# Altium schematic symbol library Schlib_Motorvermogen.SchLib: 20 symbols
Pins are listed as number, name and electrical type; pins without a type are passive.

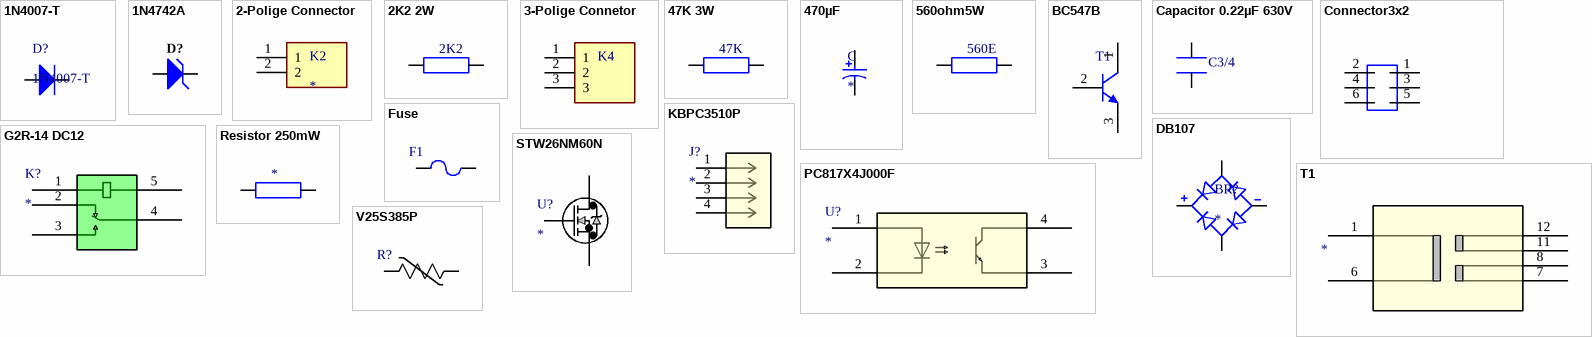
[diagram p0: symbols 1N4007-T to V25S385P]

## 1N4007-T
designator D?
1.0 A Rectifier, 8 pF, 1000 V, -65 to 150 degC, 2-Pin DO-41 Plastic, RoHS, Tape and Reel; Manufacturer: Diodes Inc; Max. Average Rectified Current IO (A): 1; CT (pF): 8; Max. IR (uA): 5; VRRM (V): 1000; Max. IFSM (A): 30; Mounting Technology: Through Hole; Packing: Tape and Reel; ComponentLink1Description: Manufacturer URL; DatasheetVersion: Rev. 8-2; PackageDescription: 2-Pin Axial Lead, Body 4.635 x 2.36 mm, Lead Spread 25.4 mm; PartNumber: 1N4007-T; ComponentLink2Description: Datasheet; RoHS: TRUE; ComponentLink1URL: http://diodes.com/; ComponentLink2URL: http://diodes.com/datasheets/ds28002.pdf; Operating Temperature Range (degC): -65 to 150; VF (V): 1; PackageReference: DO-41-P-2
footprint 1N4007-T (2-Leads, Axial Lead, Body 4.635x2.36mm, Pin Spacing 9mm)
pins: 1 A, 2 K

## 1N4742A
designator D?  (value not drawn)
Zener Diode, 12V, 1W, 5%, -65 to 200 degC, 2-Pin DO-41, Body 2.72 x 5.2 mm, RoHS; Manufacturer: Fairchild Semiconductor; PD (W): 1; VZ (Min.) (V): 11.4; VZ (Max.) (V): 12.6; ZZ (Max) (ohm): 8; IR (uA): 5; Test Current IZ (mA): 21; PartNumber: 1N4742A; PackageVersion: Rev. 2; DatasheetVersion: Rev. H3; Mounting Technology: Through Hole; Tolerance: 5%; PackageDescription: 2-Pin Axial leaded, Body 2.72 x 5.2 mm, Lead Spread 25.4 mm; ComponentLink1Description: Manufacturer URL; ComponentLink3Description: Package Specification; ComponentLink2Description: Datasheet; ComponentLink2URL: http://www.fairchildsemi.com/ds/1N/1N4744A.pdf; PackageReference: DO-41-2; RoHS: TRUE; Operating and Storage Temperature Range: -65 to 200 degC; ComponentLink3URL: http://www.fairchildsemi.com/dwg/DO/DO41A.pdf; ComponentLink1URL: http://www.fairchildsemi.com/
footprint 1N4742A (2-Leads, Axial leaded, Body 2.72x5.2mm, Pin Spacing 9mm)
pins: 1 A, 2 K

## 2-Polige Connector
designator K2
2~24 Poles, Screw Type, Horizontal, 7.62 Pitch, 26~10 (AWG), Terminal Block Connector; MP: TB005-762-02BE; MF: CUI Devices; SnapEDA_Link: https://www.snapeda.com/parts/TB005-762-02BE/CUI+Devices/view-part/?ref=snap; Price: None; CUI_purchase_URL: https://www.cuidevices.com/product/interconnect/connectors/terminal-blocks/tb005-762-series?utm_source=snapeda.com&utm_medium=referral&utm_campaign=snapedaBOM; Check_prices: https://www.snapeda.com/parts/TB005-762-02BE/CUI+Devices/view-part/?ref=eda; Availability: In Stock; Value: *; Purchase-URL: https://pricing.snapeda.com/search/part/TB005-762-02BE/?ref=eda; Package: None
footprint 2-Polige Connector
pins: 1, 2

## 2K2 2W
designator 2K2  (value not drawn)
footprint 2K2 2W
pins: 1, 2

## 3-Polige Connetor
designator K4  (value not drawn)
MP: TB005-762-03BE; Package: None; Value: *; Availability: Unavailable; Price: None
footprint 3-Polige Connector (Footprint not found)
pins: 1, 2, 3

## 47K 3W
designator 47K  (value not drawn)
47K 3W
footprint 47K 3W
pins: 1, 2

## 470µF
designator C
Capacitor 470µF 50V
footprint Capacitor
pins: 1, 2

## 560ohm5W
designator 560E
Resistor, 560 Ohm, ± 5%, 5 W, Axial Leaded, Wirewound, General Purpose; NexarPartId: 39746692; Lead Diameter: 800µm; Max Power Dissipation: 5W; Voltage Rating: 53V; Temperature Coefficient: -80ppm/°C; Resistance: 560Ω; Length: 18mm; Tolerance: 5%; Contact Plating: Tin; Composition: Wirewound; Width: 7.49mm; Features: Flame Retardant Coating; Min Operating Temperature: -40°C; Number of Terminations: 2; Number of Pins: 2; Radiation Hardening: No; Military Standard: Not; Schedule B: 8533210080, 8533210080|8533210080|8533210080|8533210080|8533210080; Power Rating: 5W; Case/Package: Axial; RoHS: Compliant; REACH SVHC: Unknown; Packaging: Tape & Box (TB); Termination: Axial; Voltage Rating (DC): 53V; Max Operating Temperature: 275°C; Diameter: 7.5mm
footprint 560Ohm 5W
pins: 1, 2

## BC547B
designator T1  (value not drawn)
Amplifier Transistor, NPN Silicon, 3-Pin TO-92, Bulk Box; Manufacturer: On Semiconductor; IC Continuous (A): 0.1; fT Min (MHz): 150; DatasheetVersion: Rev. 7; ComponentLink1URL: http://www.onsemi.com/; Polarity: NPN; RoHS: FALSE; ComponentLink1Description: Manufacturer URL; Packing: Bulk Box; PackageDescription: 3-Pin Transistor Outline, Body 4.825 x 3.685 mm, Pitch 1.27 mm; ComponentLink3URL: http://www.onsemi.cn/pub_link/Collateral/2N6426-D.PDF; ComponentLink2Description: Datasheet; PackageVersion: Rev. AM; PackageReference: TO-92-3-29-11_AM_SL; ComponentLink3Description: Package Specification; Mounting Technology: Through Hole; PartNumber: BC547B; ComponentLink2URL: http://www.onsemi.com/pub_link/Collateral/BC546-D.PDF
footprint Transistor (TO, 3-Leads, Body Dia 4.7mm, Pitch 1.27mm)
pins: 1 C, 2 B, 3 E

## Capacitor 0.22µF 630V
designator C3/4  (value not drawn)
Capacitor 0.22µF 630V
footprint 0.22µF
pins: 1, 2

## Connector3x2
designator ?, comment TSW-103-08-L-D
Male Header, Pitch 2.54 mm, 2 x 3 Position,  8.9 x 15.22 x 11.95 mm; Manufacturer: Samtec; DatasheetVersion: 04/2012; ComponentLink3URL: http://suddendocs.samtec.com/prints/tsw-xxx-xx-x-x-xx-xxx-footprint.pdf; PackageReference: TSW-103-08-L-D; Mounting Technology: Through Hole; Min Operating Temperature: -55 degC; ComponentLink2Description: Datasheet; Lead Pitch: 2.54 mm; ComponentLink1Description: Manufacturer URL; Mount: Through Hole; ComponentLink1URL: http://www.samtec.com/; ComponentLink3Description: Package Specification; Max Operating Temperature: 125 degC; PackageDescription: Male Header, Pitch 2.54 mm, 2 x 3 Position, Height 8.38 mm, Tail Length 5.08 mm; ComponentLink2URL: https://datasheet.ciiva.com/25618/0900766b81154476-25618436.pdf; RoHSCompliant: true
footprint Pin3x2 (CONN, 6-Leads, Body 7.62x5.08mm, Pitch 2.54mm)
pins: 1, 2, 3, 4, 5, 6

## DB107
designator BR?
MP: DB107; Package: None; Availability: Unavailable; Value: *; Price: None
footprint DB107
pins: 1 POS, 2 NEG, 3 AC1, 4 AC2

## Fuse
designator F1  (value not drawn)
No Description Available; Mfr_Name: Littelfuse Inc
footprint FUSE
pins: 1, 2

## G2R-14 DC12
designator K?
No Description Available; Mfr_Name: Omron; Type: Type; RefDes: RefDes
footprint RELAY_G2R-14_OMR
pins: 1, 2, 3, 4, 5

## KBPC3510P
designator J?
No Description Available; Mfr_Name: Solid State Manufacturing; RefDes: RefDes; Type: Type
footprint CONN4_C3510P_SSM
pins: 1, 2, 3, 4

## PC817X4J000F
designator U?
OptoCoupler; Mfr_Name: Sharp; RefDes: RefDes; Type: Type
footprint PC817X4J000F (Optocoupler)
pins: 1, 2, 3, 4

## Resistor 250mW
designator *  (value not drawn)
footprint Resistor
pins: 1, 2

## STW26NM60N
designator U?
No Description Available; Mfr_Name: STMicroelectronics
footprint TO-247_STM
pins: 1, 2, 3

## T1
designator ?
No Description Available; Mfr_Name: Myrra; RefDes: RefDes; Type: Type
footprint T1
pins: 1, 6, 7, 8, 11, 12

## V25S385P
designator R?  (value not drawn)
No Description Available; Mfr_Name: Littelfuse Inc
footprint VRES_V25S385P_LTF
pins: 1, 2